# Altium footprint library OTHER.PCBLIB: 126 footprints (part 7 of 8)
Each footprint in its own frame and in the unit in brackets; x right, y up, seen from the top. Pads: shape width x height; smd on the part's side, far side on the other; paste and mask are expansions set on the pad; w line width, h text height; cw(c..) or ccw(c..) is an arc to the next point about the centre after c.
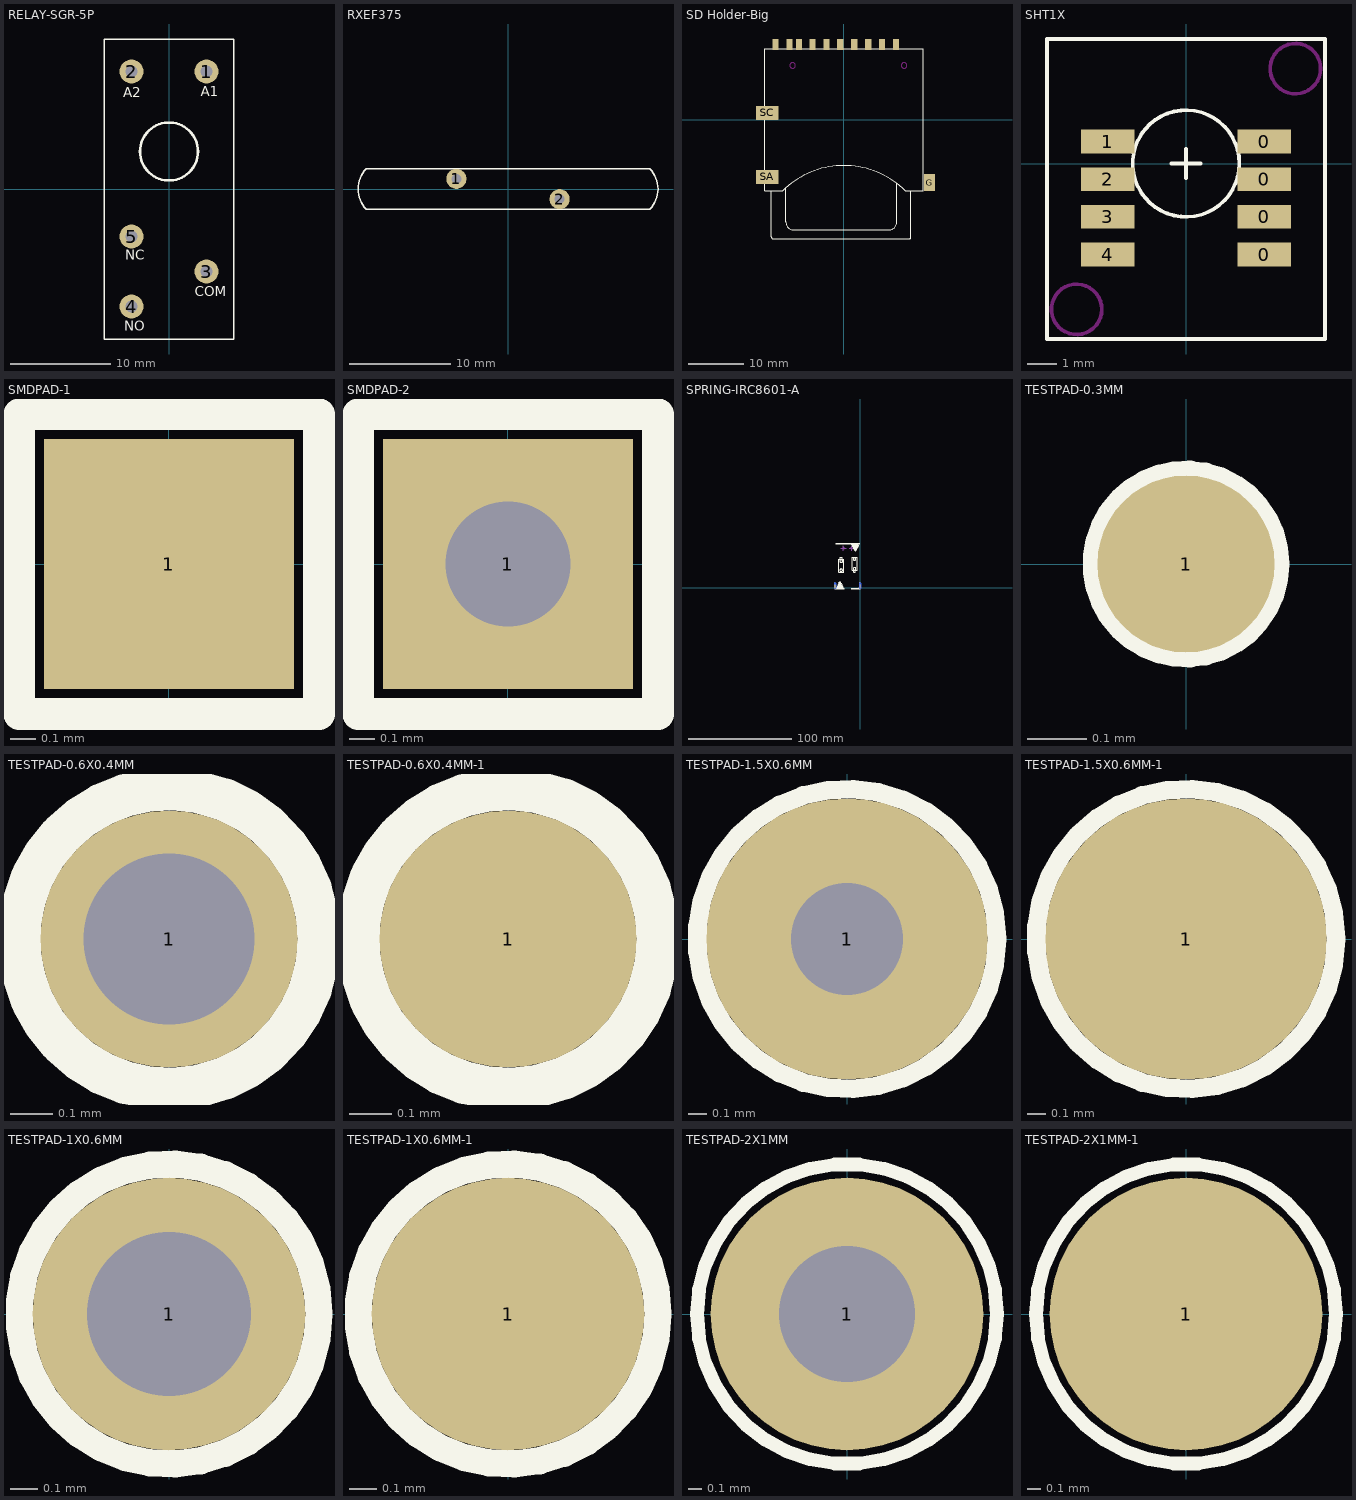
[diagram p6: the footprints below, top view; thin cyan lines are the x and y axes]

## RELAY-SGR-5P [mm]
pads (5):
  round 2.4 hole 1.2: 1(3.75,11.75) 2(-3.75,11.75) 3(3.75,-8.25) 4(-3.75,-11.75) 5(-3.75,-4.75)
TopOverlay:
  circle w0.254: c0,3.75 r2.9
  lines w0.127: -6.5,-15 6.5,-15 6.5,15 -6.5,15 -6.5,-15
  text "COM" at 2.575,-10.725 h1
  text "A2" at -4.55,9.2 h1
  text "NO" at -4.45,-14.175 h1
  text "NC" at -4.4,-7.05 h1
  text "A1" at 3.15,9.275 h1

## RXEF375 [mm]
pads (2):
  round 2 hole 1: 1(-5.1,1) 2(5.1,-1)
TopOverlay:
  lines w0.127: -14,-2 cw(c-12,0) -14,2 14,2 cw(c12,0) 14,-2 -14,-2

## SD Holder-Big [mm] "SD Holder-Big"
pads (13):
  rect 1.1x2 smd: 1(6.85,13.5) 2(4.35,13.5) 3(1.85,13.5) 4(-0.65,13.5) 5(-3.15,13.5) 6(-5.65,13.5) 7(-8.05,13.5) 8(-9.75,13.5) 9(9.35,13.5) SB(-12.25,13.5)
  rect 2x3 smd: G(15.35,-11.25)
  rect 4x2.5 smd: SA(-13.75,-10.25) SC(-13.75,1.25)
TopOverlay:
  lines w0.127: -13,-12.825 -13,-21 ccw(c-12.7,-21.05) -12.75,-21.35 11.75,-21.35 ccw(c11.7,-21.05) 12,-21 12,-12.75 ; -10.4,-12.2 -10.4,-18.275 ccw(c-9.062,-18.362) -9.15,-19.7 8.25,-19.7 ccw(c8.162,-18.362) 9.5,-18.275 9.5,-11.425 ; -14.2,-12.75 -14.2,12.75 14.2,12.75 14.2,-12.75 11,-12.75 ccw(c0,-23.75) -11,-12.75 -14.2,-12.75
KeepOutLayer:
  circle w0.127: c-9.2,9.75 r0.5
  circle w0.127: c10.8,9.75 r0.5

## SHT1X [mm]
pads (8):
  rect 1.8x0.8 smd: 0(2.64,-3.07) 0(2.64,-1.8) 0(2.64,-0.53) 0(2.64,0.74) 1(-2.64,0.74) 2(-2.64,-0.53) 3(-2.64,-1.8) 4(-2.64,-3.07)
TopOverlay:
  circle w0.127: c0,0 r1.8
  lines w0.127: -0.5,0 0.5,0 ; 0,-0.5 0,0.5 ; -4.69,-5.92 -4.69,4.2 4.69,4.2 4.69,-5.92 -4.69,-5.92
KeepOutLayer:
  circle w0.127: c3.69,3.2 r0.85
  circle w0.127: c-3.69,-4.92 r0.85

## SMDPAD-1 [mm]
pads (1):
  rect 1x1 smd: 1(0,0)
TopOverlay:
  lines w0.127: -0.6,-0.6 0.6,-0.6 0.6,0.6 -0.6,0.6 -0.6,-0.6

## SMDPAD-2 [mm]
pads (1):
  rect 1x1 hole 0.5: 1(0,0)
TopOverlay:
  lines w0.127: -0.6,-0.6 0.6,-0.6 0.6,0.6 -0.6,0.6 -0.6,-0.6

## SPRING-IRC8601-A [mm]
pads (24):
  round 0.5 hole 0.5: 1(0,0) 1(0,0.152) 1(0,0.483) 1(0,0.838) 1(0,1.168) 1(0,1.473) 1(0,1.803) 1(0,2.286) 1(0,2.515) 1(0,2.845) 1(0.025,2.083) 2(-24.384,-0.025) 2(-24.384,0.051) 2(-24.384,0.406) 2(-24.384,0.737) 2(-24.384,1.092) 2(-24.384,1.397) 2(-24.384,1.753) 2(-24.384,2.083) 2(-24.384,2.438) 2(-24.384,2.794) 2(-24.384,2.87)
  oval 2x6 smd far side: 1(0.025,2.083) 2(-24.384,2.083)
TopOverlay:
  drawing of 521 lines, arcs and shapes, not listed
BottomOverlay:
  rectangle: -6.807,19.431 -3.861,26.67
  rectangle: -6.35,15.164 -4.648,17.145
  rectangle: -19.304,27.635 -17.628,29.667
  rectangle: -20.853,27.178 -16.104,27.686
  rectangle: -17.221,15.215 -16.078,27.28
  rectangle: -20.879,18.237 -16.713,24.816
  rectangle: -20.853,24.105 -19.406,27.483
  rectangle: -20.879,15.24 -19.431,18.542
  rectangle: -20.041,15.215 -16.866,15.977
  rectangle: -7.899,17.17 -6.579,29.642
  rectangle: -6.629,28.931 -3.099,29.616
  rectangle: -4.47,17.12 -3.124,29.337
  text "+" at -17.729,26.873 h2.03
  text "+" at -4.851,19.355 h2.03
  text "-" at -17.755,17.983 h2.03
  text "-" at -4.826,28.931 h2.03
Mechanical1:
  circle w0.127: c-16.254,38.554 r0.75
  circle w0.127: c-8.254,38.554 r0.75
  lines w0.127: -18.754,38.554 -13.754,38.554 ; -16.254,36.054 -16.254,41.054 ; -10.754,38.554 -5.754,38.554 ; -8.254,36.054 -8.254,41.054
Mechanical7:
  lines w0.127: -24.612,0.233 -24.612,-0.221 -24.162,-0.221 -24.162,0.233 ; -24.612,0.779 -24.162,0.779 ; -24.612,1.579 -24.162,1.579 ; -24.612,2.126 -24.612,2.579 ; -24.387,-0.221 -24.387,0.279 -24.387,0.779 -24.387,1.579 -24.387,2.079 -24.387,2.579 ; -24.162,2.126 -24.162,2.579 ; -0.212,0.233 -0.212,-0.221 0.013,-0.221 ; -0.212,0.779 0.013,0.779 ; -0.212,1.579 0.013,1.579 ; -0.212,2.126 -0.212,2.579 ; 0.238,0.279 0.238,2.079 ; 0.238,0.233 0.238,-0.221 0.013,-0.221 ; 0.238,0.279 0.238,2.079 ; 0.238,0.779 0.013,0.779 ; 0.238,1.579 0.013,1.579 ; 0.238,2.126 0.238,2.579 ; -24.612,2.579 -24.612,3.079 -24.162,3.079 -24.162,2.579 ; -24.612,2.579 -24.162,2.579 ; -0.212,2.579 -0.212,3.079 0.013,3.079 0.238,3.079 0.238,2.579 ; -0.212,2.579 0.013,2.579 ; 0.013,-0.221 0.013,0.279 0.013,0.779 ; 0.013,0.779 0.013,1.579 ; 0.013,1.579 0.013,2.079 0.013,2.579 ; 0.013,2.579 0.238,2.579 ; -24.612,0.279 -24.612,2.079 -24.612,0.279 ; -24.162,0.279 -24.162,2.079 -24.162,0.279 ; -0.212,0.279 -0.212,2.079 -0.212,0.279

## TESTPAD-0.3MM [mm] "TESTPAD-0.3MM"
pads (1):
  round 0.3 smd mask+0.05: 1(0,0)
TopOverlay:
  circle w0.05: c0,0 r0.15

## TESTPAD-0.6X0.4MM [mm]
pads (1):
  round 0.6 hole 0.4: 1(0,0)
TopOverlay:
  circle w0.1: c0,0 r0.35

## TESTPAD-0.6X0.4MM-1 [mm] "TESTPAD-0.6X0.4MM-1"
pads (1):
  round 0.6 smd: 1(0,0)
TopOverlay:
  circle w0.1: c0,0 r0.35

## TESTPAD-1.5X0.6MM [mm]
pads (1):
  round 1.5 hole 0.6: 1(0,0)
TopOverlay:
  circle w0.1: c0,0 r0.8

## TESTPAD-1.5X0.6MM-1 [mm]
pads (1):
  round 1.5 smd: 1(0,0)
TopOverlay:
  circle w0.1: c0,0 r0.8

## TESTPAD-1X0.6MM [mm]
pads (1):
  round 1 hole 0.6: 1(0,0)
TopOverlay:
  circle w0.1: c0,0 r0.55

## TESTPAD-1X0.6MM-1 [mm]
pads (1):
  round 1 smd: 1(0,0)
TopOverlay:
  circle w0.1: c0,0 r0.55

## TESTPAD-2X1MM [mm]
pads (1):
  round 2 hole 1: 1(0,0)
TopOverlay:
  circle w0.1: c0,0 r1.1

## TESTPAD-2X1MM-1 [mm]
pads (1):
  round 2 smd: 1(0,0)
TopOverlay:
  circle w0.1: c0,0 r1.1